# Altium footprint library MergenElektronik_Diodes_SingleDiodes.PcbLib: 2 footprints
Each footprint in its own frame and in the unit in brackets; x right, y up, seen from the top. Pads: shape width x height; smd on the part's side, far side on the other; paste and mask are expansions set on the pad; w line width, h text height; cw(c..) or ccw(c..) is an arc to the next point about the centre after c.
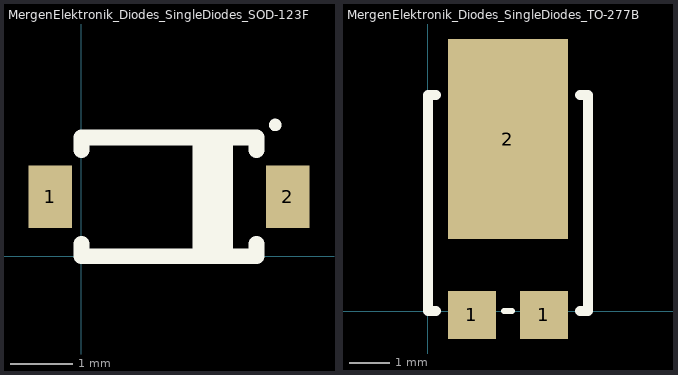
[diagram p0: the footprints below, top view; thin cyan lines are the x and y axes]

## MergenElektronik_Diodes_SingleDiodes_SOD-123F [mm] "SOD-123F"
pads (2):
  rect 0.7x1 smd: 1(-0.5,0.95) 2(3.3,0.95)
Top Overlay:
  circle w0.1: c3.1,2.1 r0.05
  lines w0.254: 0,0.2 0,0 2.8,0 2.8,0.2 ; 0,1.7 0,1.9 2.8,1.9 2.8,1.7 ; 1.9,1.6 1.9,0.1 1.9,1.9 ; 2.1,0 2.1,1.9 ; 2.3,0 2.3,1.9
3D body: height 1.02, standoff 0, extent -0.5,0.1 3.3,1.9

## MergenElektronik_Diodes_SingleDiodes_TO-277B [mm] "TO-277B"
pads (3):
  rect 1.2x1.2 smd: 1(1.1,-0.1) 1(2.9,-0.1)
  rect 3x5 smd: 2(2,4.3)
Top Overlay:
  lines w0.15: 1.9,0 2.1,0
  lines w0.254: 0.2,0 0,0 0,5.4 0.2,5.4 ; 3.8,0 4,0 4,5.4 3.8,5.4
3D body: height 0.74, standoff 0, extent -0.2,-0.1 4.2,6.5